# EAGLE library part BOARDUINO (library CARA)
Boarduino shield layout. Used for ACU DB25 shield. Proven.
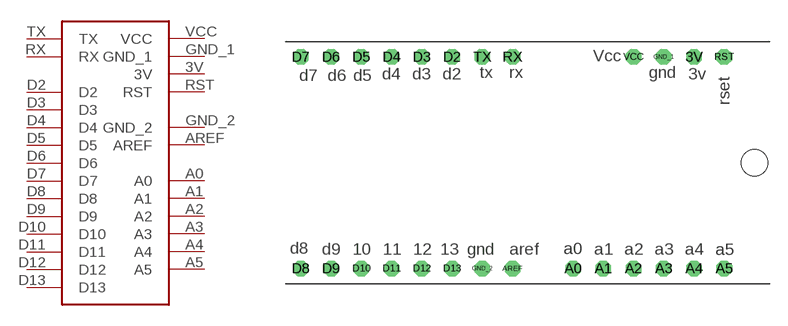
[diagram p5: symbol with the pads of BOARDUINO; footprint BOARDUINO]

Designator prefix -

## BOARDUINO  [BOARDUINO]
3V  3V
A0  A0
A1  A1
A2  A2
A3  A3
A4  A4
A5  A5
AREF  AREF
D2  D2
D3  D3
D4  D4
D5  D5
D6  D6
D7  D7
D8  D8
D9  D9
D10  D10
D11  D11
D12  D12
D13  D13
GND_1  GND_1
GND_2  GND_2
RST  RST
RX  RX
TX  TX
VCC  VCC

## Footprint BOARDUINO (pad centres in mm)
drill 0.8 octagon: 3V 15.24,8.89; A0 5.08,-8.89; A1 7.62,-8.89; A2 10.16,-8.89; A3 12.7,-8.89; A4 15.24,-8.89; A5 17.78,-8.89; AREF 0,-8.89; D2 -5.08,8.89; D3 -7.62,8.89; D4 -10.16,8.89; D5 -12.7,8.89; D6 -15.24,8.89; D7 -17.78,8.89; D8 -17.78,-8.89; D9 -15.24,-8.89; D10 -12.7,-8.89; D11 -10.16,-8.89; D12 -7.62,-8.89; D13 -5.08,-8.89; GND_1 12.7,8.89; GND_2 -2.54,-8.89; RST 17.78,8.89; RX 0,8.89; TX -2.54,8.89; VCC 10.16,8.89
hole 2.2 at 20.32,0